# Altium footprint library MFL PEAK ANTENNA.PcbLib: 1 footprints
Each footprint in its own frame and in the unit in brackets; x right, y up, seen from the top. Pads: shape width x height; smd on the part's side, far side on the other; paste and mask are expansions set on the pad; w line width, h text height; cw(c..) or ccw(c..) is an arc to the next point about the centre after c.
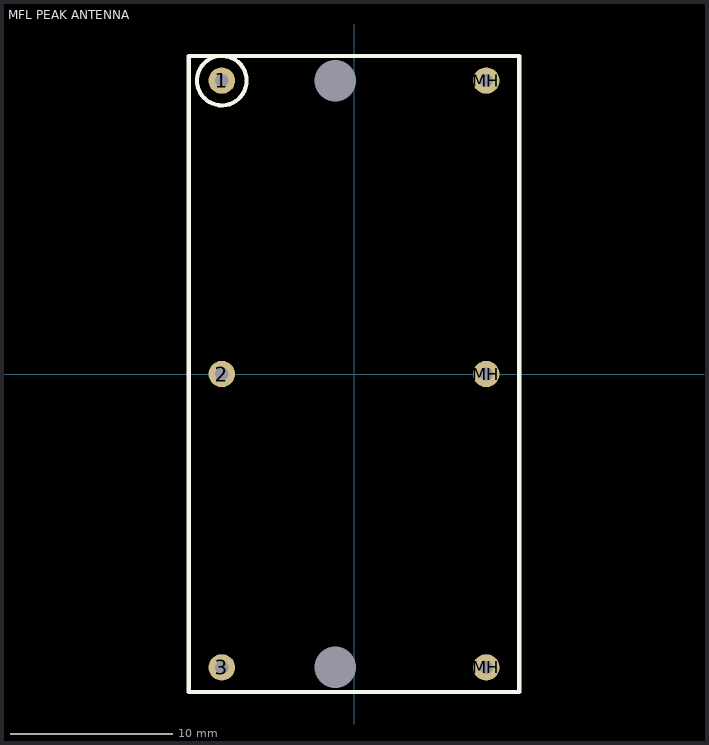
[diagram p0: the footprint, top view; thin cyan lines are the x and y axes]

## MFL PEAK ANTENNA [mil]
height 390
pads (8):
  round 64 hole 32: 1(-320,710) 2(-320,0) 3(-320,-710) MH(320,-710) MH(320,0) MH(320,710)
  round 0 hole 100 unplated: MH(-45,-710) MH(-45,710)
TopOverlay:
  circle w10: c-320,710 r60
  lines w10: -400,-770 400,-770 400,770 -400,770 -400,-770
3D body: height 891.61, standoff -92, extent -392.99,-1875 393.01,1874.99